# EAGLE library part 5555164 (library MCE_Conectores)
RJ45 Conectores Ethernet 8 PCB https://www.mouser.mx/ProductDetail/TE-Connectivity-AMP/5555164-1?qs=BcfjnG7NVaWfeEYSWegYjg%3D%3D
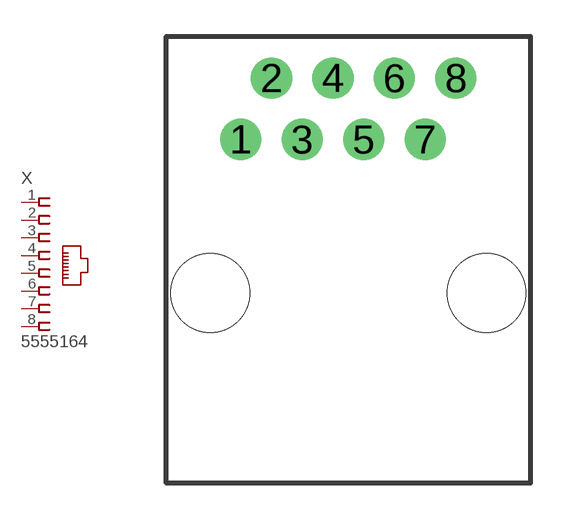
[diagram p5: symbol with the pads of 5555164; footprint 5555164]

Designator prefix X

## 5555164-1  [5555164]
1  1  pas
2  2  pas
3  3  pas
4  4  pas
5  5  pas
6  6  pas
7  7  pas
8  8  pas

## Footprint 5555164 (pad centres in mm)
RJ45 Low Profile No Shield Shttps://www.te.com/commerce/DocumentDelivery/DDEController?Action=srchrtrv&DocNm=5555164&DocType=Customer+Drawing&DocLang=English&PartCntxt=5555164-1&DocFormat=pdf
drill 0.9 pad 1.7: 1 -4.445,6.35; 2 -3.175,8.89; 3 -1.905,6.35; 4 -0.635,8.89; 5 0.635,6.35; 6 1.905,8.89; 7 3.175,6.35; 8 4.445,8.89
hole 3.251 at -5.715,0
hole 3.251 at 5.715,0